# Altium footprint library Fromm.PcbLib: 105 footprints (part 5 of 7)
Each footprint in its own frame and in the unit in brackets; x right, y up, seen from the top. Pads: shape width x height; smd on the part's side, far side on the other; paste and mask are expansions set on the pad; w line width, h text height; cw(c..) or ccw(c..) is an arc to the next point about the centre after c.
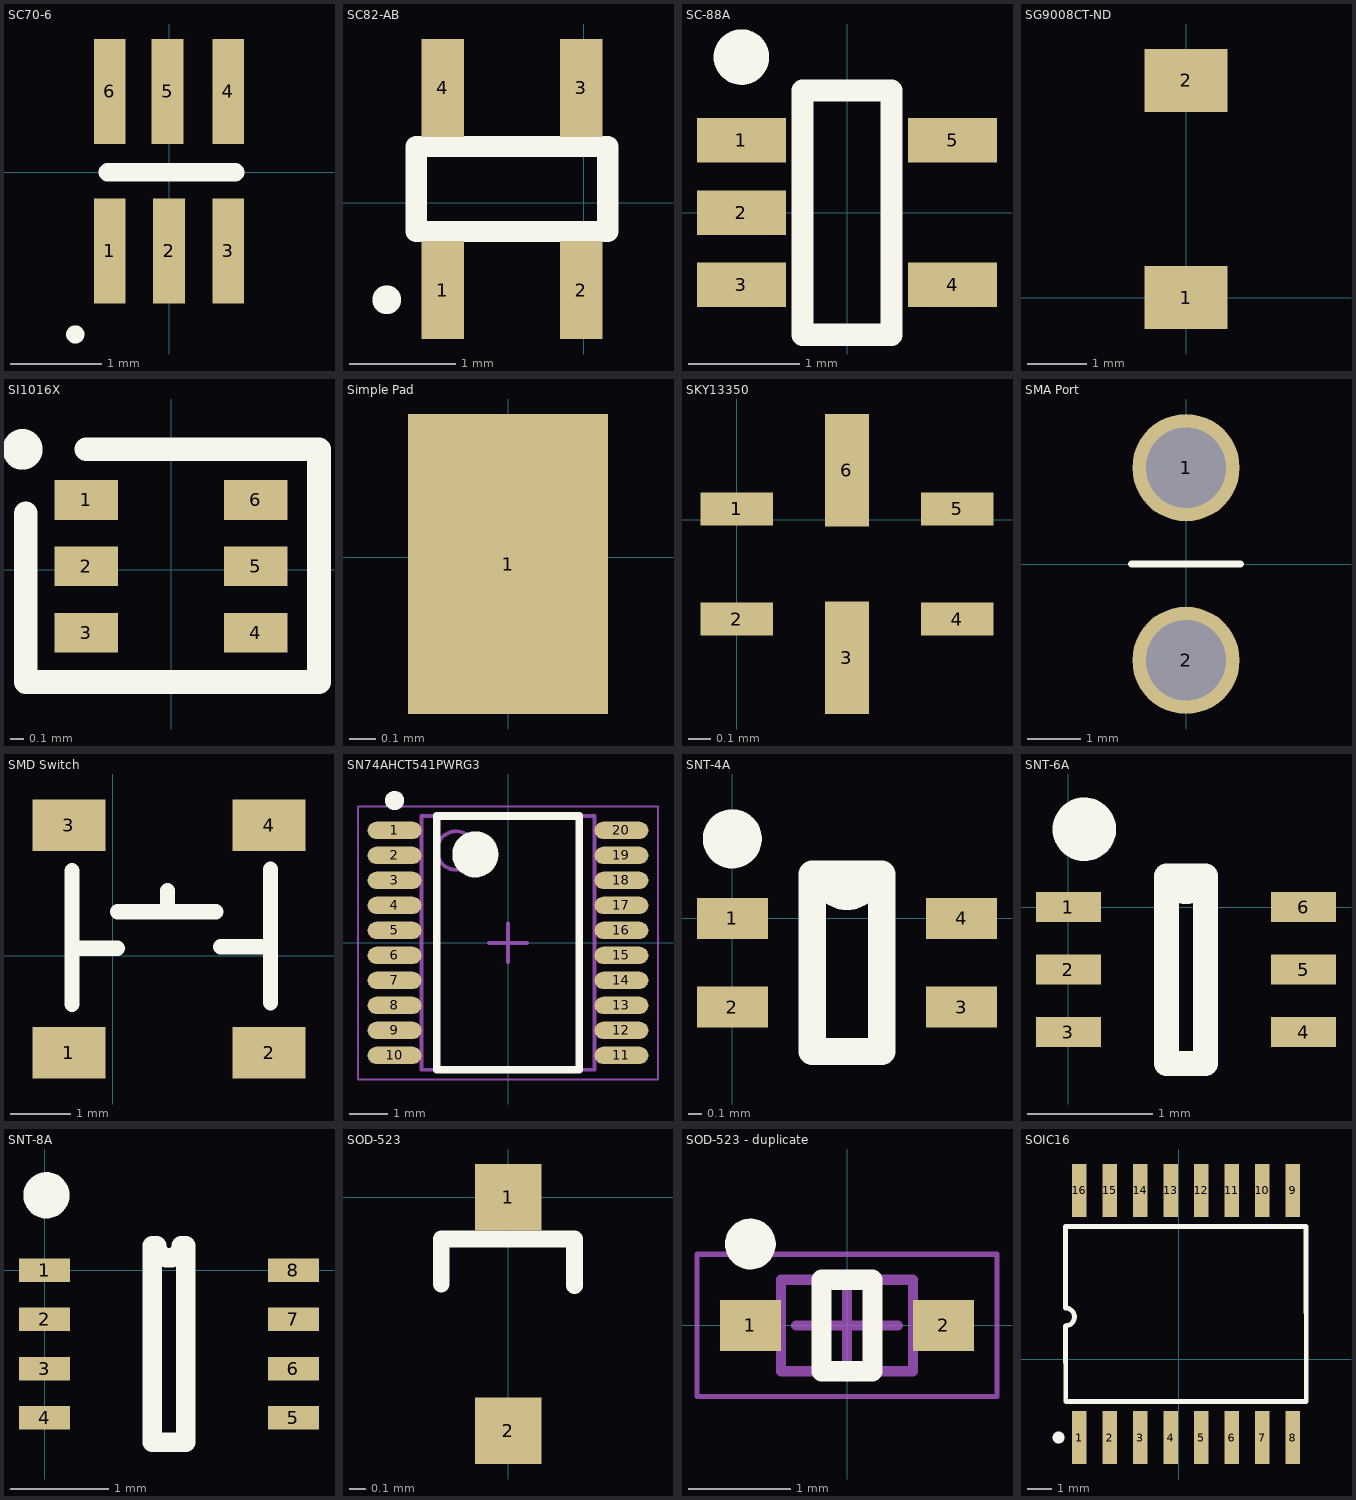
[diagram p4: the footprints below, top view; thin cyan lines are the x and y axes]

## SC70-6 [mm] "DIP; 24 Leads; Row Spacing 15.24 mm; Pitch 2.54 mm"
height 5.72
pads (6):
  rect 0.35x1.15 smd: 1(-0.652,-0.863) 2(-0.002,-0.863) 3(0.648,-0.863) 4(0.648,0.887) 5(-0.017,0.887) 6(-0.652,0.887)
Top Overlay:
  circle w0.1: c-1.03,-1.779 r0.05
  lines w0.2: -0.675,-0.001 0.725,-0.001

## SC82-AB [mm]
pads (4):
  rect 0.4x0.92 smd: 1(-1.323,-0.823) 2(-0.023,-0.823) 3(-0.023,1.077) 4(-1.323,1.077)
Top Overlay:
  circle w0.254: c-1.849,-0.914 r0.008
  lines w0.2: -1.573,-0.273 -1.573,0.527 0.227,0.527 0.227,-0.273 -1.573,-0.273

## SC-88A [mm] "SC-88A 5-Leads, Body 2.2x2.2mm (max), Pitch 0.65mm, IPC Medium Density"
height 1
pads (5):
  rect 0.8x0.4 smd: 1(-0.95,0.65) 2(-0.95,0) 3(-0.95,-0.65) 4(0.95,-0.65) 5(0.95,0.65)
Top Overlay:
  circle w0.25: c-0.95,1.4 r0.125
  lines w0.2: -0.4,-1.1 -0.4,1.1 0.4,1.1 0.4,-1.1 -0.4,-1.1

## SG9008CT-ND [mm] "Cap Trimmer"
pads (2):
  rect 1.4x1.07 smd: 1(0,0) 2(0,3.675)

## SI1016X [mm] "CMOS IC"
pads (6):
  rect 0.478x0.3 smd: 1(-0.638,0.525) 2(-0.638,0.025) 3(-0.638,-0.475) 4(0.638,-0.475) 5(0.638,0.025) 6(0.638,0.525)
Top Overlay:
  circle w0.254: c-1.121,0.906 r0.025
  lines w0.178: -1.095,0.423 -1.095,-0.847 1.115,-0.847 1.115,0.906 -0.638,0.906

## Simple Pad [mil] "Not a bad pad."
pads (1):
  rect 30x45 smd: 1(0,-0.98)

## SKY13350 [mm] "863-1451-1-ND"
pads (6):
  rect 0.33x0.15 smd: 1(0,0.05) 2(0,-0.45) 4(1,-0.45) 5(1,0.05)
  rect 0.2x0.51 smd: 3(0.5,-0.625) 6(0.5,0.225)

## SMA Port [mm] "SMA port for wisp"
pads (2):
  round 2 hole 1.5: 1(0,1.796) 2(0,-1.796)
Top Overlay:
  lines w0.127: -1.016,0 1.016,0

## SMD Switch [mm]
pads (4):
  rect 1.2x0.85 smd: 1(-0.725,-1.6) 2(2.575,-1.6) 3(-0.725,2.15) 4(2.575,2.15)
Top Overlay:
  lines w0.254: -0.675,-0.8 -0.675,1.4 ; -0.675,0.125 0.075,0.125 ; 0.075,0.725 1.7,0.725 ; 0.888,0.725 0.9,0.737 0.9,1.075 ; 1.775,0.15 2.525,0.15 2.6,0.075 ; 2.6,-0.775 2.6,1.425
3D body: height 0.4, standoff 0, extent -1.325,-1.975 3.175,2.525
3D body: height 0.41, standoff 0.4, extent -0.811,-1.471 2.675,2.022

## SN74AHCT541PWRG3 [mm] "TI Octal Buffer"
height 1.2
pads (20):
  oval 1.4x0.45 smd: 1(-2.95,2.925) 2(-2.95,2.275) 3(-2.95,1.625) 4(-2.95,0.975) 5(-2.95,0.325) 6(-2.95,-0.325) 7(-2.95,-0.975) 8(-2.95,-1.625) 9(-2.95,-2.275) 10(-2.95,-2.925) 11(2.95,-2.925) 12(2.95,-2.275) 13(2.95,-1.625) 14(2.95,-0.975) 15(2.95,-0.325) 16(2.95,0.325) 17(2.95,0.975) 18(2.95,1.625) 19(2.95,2.275) 20(2.95,2.925)
Top Overlay:
  circle w0.25: c-2.95,3.7 r0.125
  circle w0.6: c-0.85,2.3 r0.3
  lines w0.2: -1.85,-3.3 -1.85,3.3 1.85,3.3 1.85,-3.3 -1.85,-3.3
Mechanical 13:
  circle w0.1: c-1.35,2.4 r0.5
  lines w0.1: -2.25,-3.3 -2.25,3.3 2.25,3.3 2.25,-3.3 -2.25,-3.3
Mechanical 15:
  lines w0.05: -3.9,-3.55 -3.9,3.55 3.9,3.55 3.9,-3.55 -3.9,-3.55
  lines w0.1: -0.5,0 0.5,0 ; 0,-0.5 0,0.5
3D body: height 1.2, standoff 0.15, extent -2.25,-3.3 2.25,3.3

## SNT-4A [mm]
pads (4):
  rect 0.52x0.3 smd: 1(0,0) 2(0,-0.65) 3(1.68,-0.65) 4(1.68,0)
Top Overlay:
  circle w0.254: c-0.001,0.584 r0.09
  lines w0.2: 0.585,-0.975 1.095,-0.975 1.095,0.325 0.677,0.325 ccw(c0.84,0.325) 1.002,0.325 0.585,0.325 0.585,-0.975

## SNT-6A [mm]
pads (6):
  rect 0.52x0.24 smd: 1(0,0) 2(0,-0.5) 3(0,-1) 4(1.88,-1) 5(1.88,-0.5) 6(1.88,0)
Top Overlay:
  circle w0.254: c0.127,0.622 r0.127
  lines w0.2: 0.785,-1.25 1.095,-1.25 1.095,0.25 0.815,0.25 ccw(c0.94,0.25) 1.065,0.25 0.785,0.25 0.785,-1.25

## SNT-8A [mm]
pads (8):
  rect 0.52x0.24 smd: 1(0,0) 2(0,-0.5) 3(0,-1) 4(0,-1.5) 5(2.53,-1.5) 6(2.53,-1) 7(2.53,-0.5) 8(2.53,0)
Top Overlay:
  circle w0.254: c0.019,0.762 r0.108
  lines w0.2: 1.095,-1.75 1.095,0.25 1.14,0.25 ccw(c1.265,0.25) 1.39,0.25 1.435,0.25 1.435,-1.75 1.095,-1.75

## SOD-523 [mm] "SOD-523 Footprint"
height 1
pads (2):
  rect 0.4x0.4 smd: 1(0,0) 2(0,-1.4)
Top Overlay:
  lines w0.1: -0.401,-0.521 -0.401,-0.248 ; -0.4,-0.25 0.4,-0.25 ; 0.399,-0.531 0.399,-0.258

## SOD-523 - duplicate [mm] "SOIC, 2-Leads, Body 0.80x1.20mm, Pitch 1.27mm, IPC Medium Density"
height 0.7
pads (2):
  rect 0.6x0.5 smd: 1(-0.95,0) 2(0.95,0)
Top Overlay:
  circle w0.25: c-0.95,0.8 r0.125
  lines w0.2: -0.25,-0.45 -0.25,0.45 0.25,0.45 0.25,-0.45 -0.25,-0.45
Mechanical 13:
  lines w0.1: -0.65,-0.45 -0.65,0.45 0.65,0.45 0.65,-0.45 -0.65,-0.45
Mechanical 15:
  lines w0.05: -1.475,-0.7 -1.475,0.7 1.475,0.7 1.475,-0.7 -1.475,-0.7
  lines w0.1: -0.5,0 0.5,0 ; 0,-0.5 0,0.5
3D body: height 0.7, standoff 0.07, extent -0.65,-0.45 0.65,0.45

## SOIC16 [mm] "SOIC 16"
height 0.508
pads (16):
  rect 0.6x2.2 smd: 1(-4.153,-3.26) 2(-2.883,-3.26) 3(-1.613,-3.26) 4(-0.343,-3.26) 5(0.927,-3.26) 6(2.197,-3.26) 7(3.467,-3.26) 8(4.737,-3.26) 9(4.737,7.007) 10(3.467,7.007) 11(2.197,7.007) 12(0.927,7.007) 13(-0.343,7.007) 14(-1.613,7.007) 15(-2.883,7.007) 16(-4.153,7.007)
Top Overlay:
  circle w0.25: c-5.003,-3.26 r0.125
  lines w0.2: -4.712,1.372 -4.708,-1.76 5.292,-1.76 5.283,5.512 ; -4.712,1.386 ccw(c-4.712,1.753) -4.712,2.119 ; -4.712,2.121 -4.712,5.512 ; -4.708,5.507 5.292,5.507